# EAGLE library part STP16DPPS05MTR (library ST Microelectronics)
LED sink driver
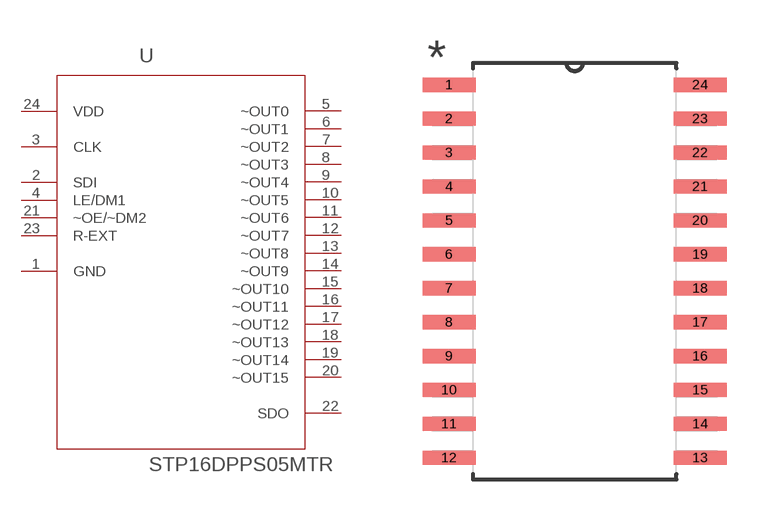
[diagram p378: symbol with the pads of SOIC127P1032X265-24N; footprint SOIC127P1032X265-24N]

Designator prefix U

## STP16DPPS05MTR (MPN: STP16DPPS05MTR; OC_FARNELL: -; OC_NEWARK: 25R9474; PACKAGE: SOIC-24; SUPPLIER: STMICROELECTRONICS)  [SOIC127P1032X265-24N]
1  GND  pas
2  SDI  in
3  CLK  in
4  LE/DM1  in
5  ~OUT0  out
6  ~OUT1  out
7  ~OUT2  out
8  ~OUT3  out
9  ~OUT4  out
10  ~OUT5  out
11  ~OUT6  out
12  ~OUT7  out
13  ~OUT8  out
14  ~OUT9  out
15  ~OUT10  out
16  ~OUT11  out
17  ~OUT12  out
18  ~OUT13  out
19  ~OUT14  out
20  ~OUT15  out
21  ~OE/~DM2  in
22  SDO  out
23  R-EXT  in
24  VDD  pwr

## Footprint SOIC127P1032X265-24N (pad centres in mm)
smd 1.981 x 0.533: 1 -4.699,6.985; 2 -4.699,5.715; 3 -4.699,4.445; 4 -4.699,3.175; 5 -4.699,1.905; 6 -4.699,0.635; 7 -4.699,-0.635; 8 -4.699,-1.905; 9 -4.699,-3.175; 10 -4.699,-4.445; 11 -4.699,-5.715; 12 -4.699,-6.985; 13 4.699,-6.985; 14 4.699,-5.715; 15 4.699,-4.445; 16 4.699,-3.175; 17 4.699,-1.905; 18 4.699,-0.635; 19 4.699,0.635; 20 4.699,1.905; 21 4.699,3.175; 22 4.699,4.445; 23 4.699,5.715; 24 4.699,6.985